# Altium schematic symbol library AQW614EH.SchLib: 1 symbol
Pins are listed as number, name and electrical type; pins without a type are passive.

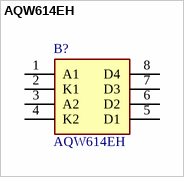
[diagram p0: symbol AQW614EH]

## AQW614EH
designator B?
PANASONIC - AQW614EH - MOSFET Relay, 400 V, 100 mA, 35 ohm, SPST-NO; Geometry.Height: 3.4mm; Manufacturer_Name: Panasonic; Manufacturer_Part_Number: AQW614EH; Mouser Part Number: 769-AQW614EH; Mouser Price/Stock: https://www.mouser.co.uk/ProductDetail/Panasonic-Industrial-Devices/AQW614EH?qs=sEN%2FkO1EG6ZhUHJMW3faVQ%3D%3D; Arrow Part Number: *; Arrow Price/Stock: *; Datasheet Link: https://industry.panasonic.com/ac/cdn/e/control/relay/photomos/catalog/semi_eng_ge1a1b_aqw61_e.pdf
footprint DIP762W47P254L986H340Q8N
pins: 1 A1, 2 K1, 3 A2, 4 K2, 5 D1, 6 D2, 7 D3, 8 D4